# EAGLE library part VN210-BREAKOUT (library nivis-vn210)
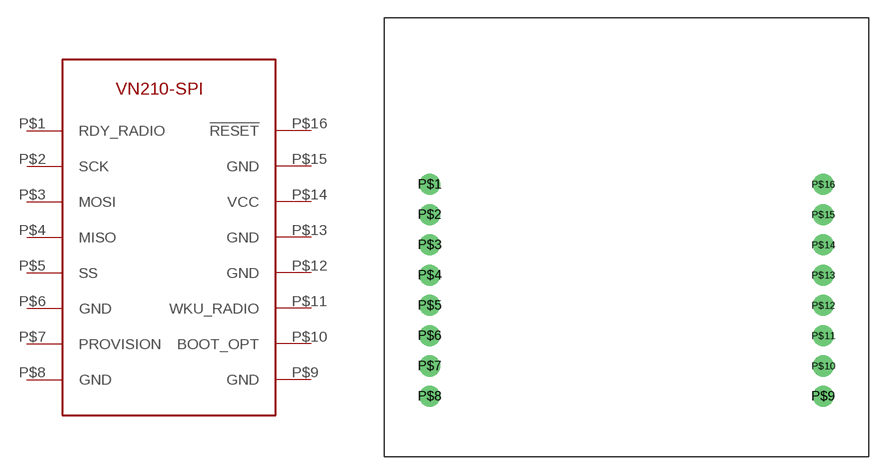
[diagram p1: symbol with the pads of VN210-BREAKOUT; footprint VN210-BREAKOUT]

Designator prefix -

## VN210-BREAKOUT  [VN210-BREAKOUT]
P$1  RDY_RADIO
P$2  SCK
P$3  MOSI
P$4  MISO
P$5  SS
P$6  GND
P$7  PROVISION
P$8  GND
P$9  GND
P$10  BOOT_OPT
P$11  WKU_RADIO
P$12  GND
P$13  GND
P$14  VCC
P$15  GND
P$16  !RESET

## Footprint VN210-BREAKOUT (pad centres in mm)
SPI breakout board for the VN210 radio
drill 0.8 pad 1.778: P$1 3.81,22.86; P$2 3.81,20.32; P$3 3.81,17.78; P$4 3.81,15.24; P$5 3.81,12.7; P$6 3.81,10.16; P$7 3.81,7.62; P$8 3.81,5.08; P$9 36.83,5.08; P$10 36.83,7.62; P$11 36.83,10.16; P$12 36.83,12.7; P$13 36.83,15.24; P$14 36.83,17.78; P$15 36.83,20.32; P$16 36.83,22.86